# Altium schematic symbol library conn-battery_0.Schlib: 1 symbol
Pins are listed as number, name and electrical type; pins without a type are passive.

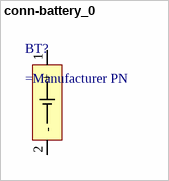
[diagram p0: symbol conn-battery_0]

## conn-battery_0
designator BT?
Battery Holder
pins: 1 +, 2 -